# Altium footprint library 1_to_5_Pin.PcbLib: 174 footprints (part 6 of 11)
Each footprint in its own frame and in the unit in brackets; x right, y up, seen from the top. Pads: shape width x height; smd on the part's side, far side on the other; paste and mask are expansions set on the pad; w line width, h text height; cw(c..) or ccw(c..) is an arc to the next point about the centre after c.
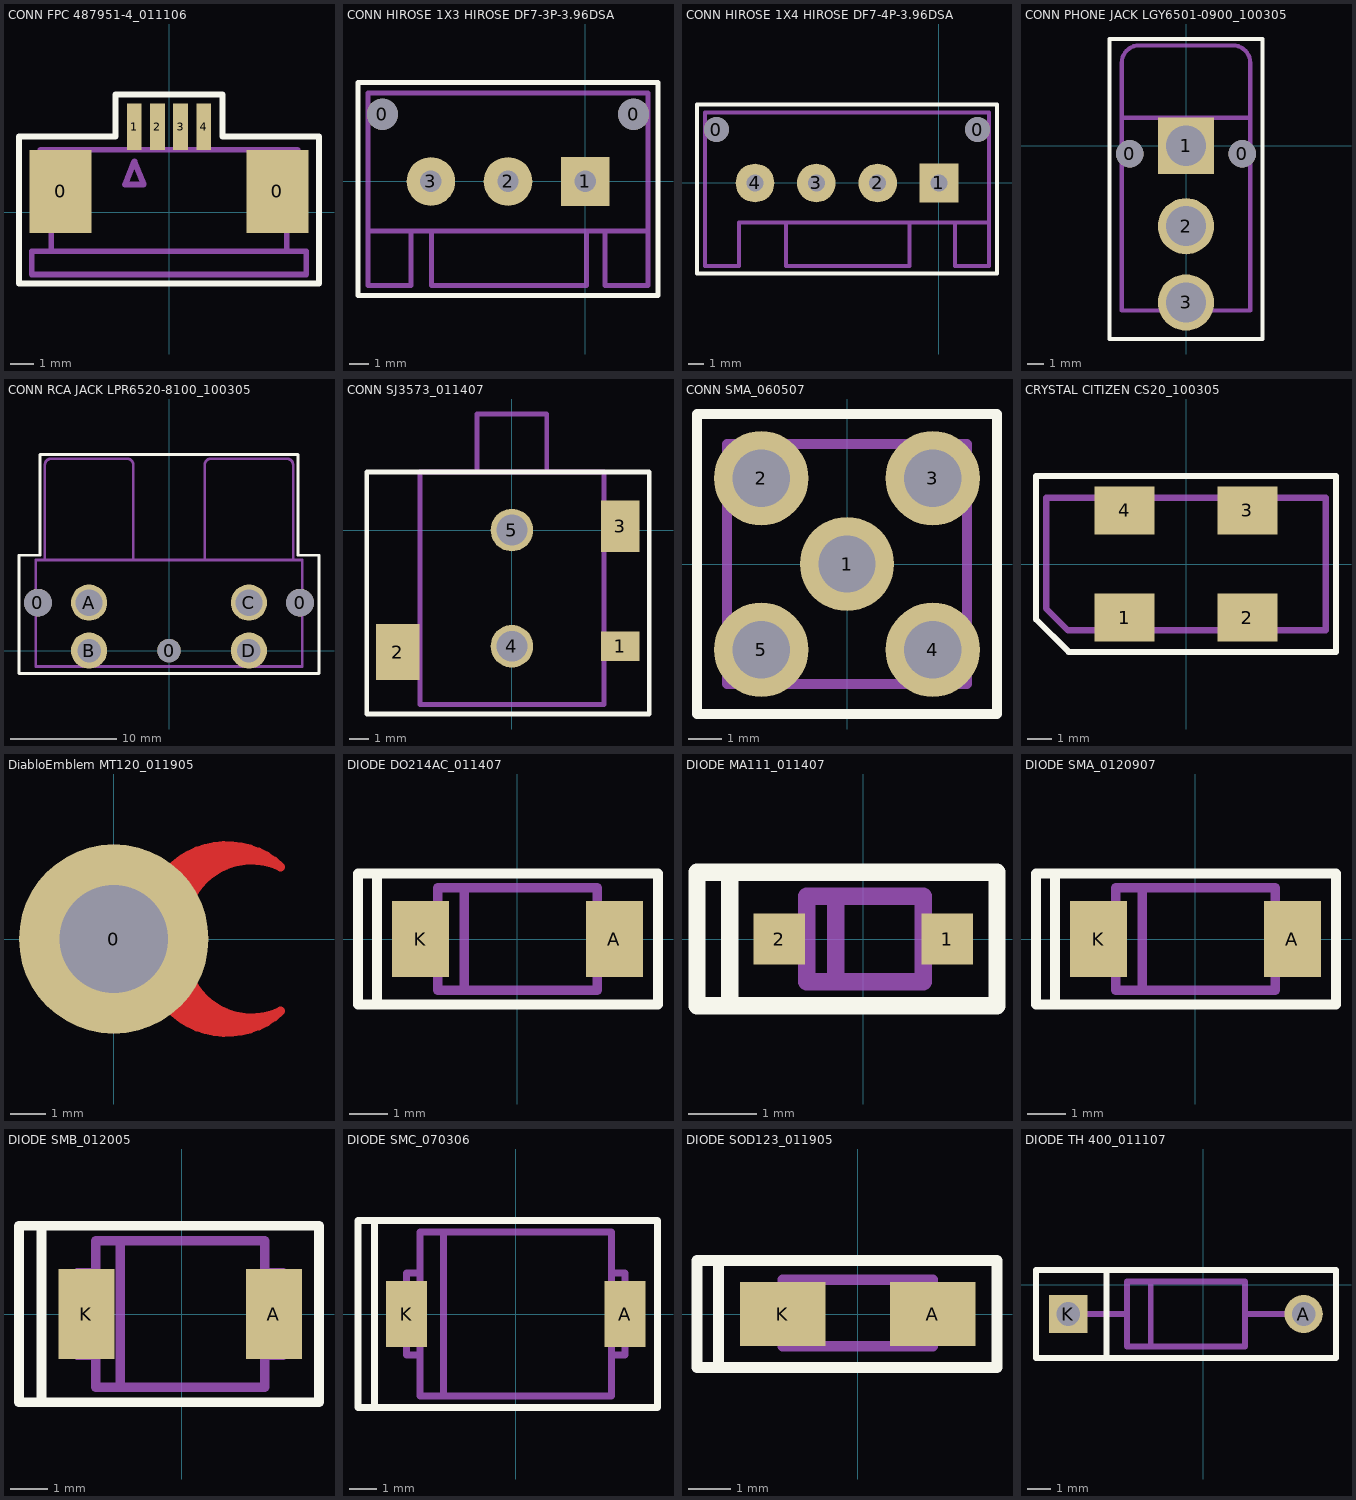
[diagram p5: the footprints below, top view; thin cyan lines are the x and y axes]

## CONN FPC 487951-4_011106 [mm] "SMT"
height 2.54
pads (6):
  rect 2.68x3.6 smd: 0(-4.7,0.9) 0(4.7,0.9)
  rect 0.635x2 smd: 1(-1.5,3.7) 2(-0.5,3.7) 3(0.5,3.7) 4(1.5,3.7)
Top Overlay:
  lines w0.254: -6.5,-3.1 0,-3.1 6.5,-3.1 6.5,0 6.5,2.35 6.5,3.275 2.325,3.275 2.325,5.1 -2.325,5.1 -2.325,3.275 -6.5,3.275 -6.5,2.35 -6.5,0 -6.5,-3.1
Assembly Outline:
  lines w0.254: -5.1,2.7 -5.1,0.05 ; -1.5,2.7 -1.5,3.85 ; -0.5,2.7 -0.5,3.85 ; 0.5,2.7 0.5,3.85 ; 1.5,2.7 1.5,3.85 ; 5.1,2.7 5.1,0.05 ; -5.95,-1.7 -5.1,-1.7 -5.1,0.05 ; -5.95,-1.7 5.95,-1.7 ; -5.95,-1.7 -5.95,-2.7 5.95,-2.7 5.95,-1.7 ; -5.1,0.05 -5.575,0.05 -5.575,2.7 0,2.7 5.575,2.7 5.575,0.05 5.1,0.05 ; 5.1,0.05 5.1,-1.7 5.95,-1.7 ; -1.9,1.2 -1.5,2.2 -1.1,1.2 -1.9,1.2
Assembly Designator:
  text ".Designator" at -1.4,0 h1.02
Assembly Comment:
  text ".Comment" at -4.275,-4.475 h1.02

## CONN HIROSE 1X3 HIROSE DF7-3P-3.96DSA [mm] "TH"
height 12.9
pads (5):
  round 1.6 hole 1.6: 0(-10.415,3.45) 0(2.495,3.45)
  rect 2.5x2.5 hole 1.1: 1(0,0)
  round 2.5 hole 1.1: 2(-3.96,0) 3(-7.92,0)
Top Overlay:
  lines w0.254: -11.665,-5.85 3.745,-5.85 3.745,4.175 3.745,5.075 -11.665,5.075 -11.665,4.175 -11.665,-5.85
Assembly Outline:
  lines w0.254: -8.945,-2.55 -8.945,-5.35 -11.145,-5.35 -11.145,-2.55 ; -7.9,-2.55 -7.9,-5.35 ; -5.895,-5.35 -7.9,-5.35 ; 0.07,-2.55 0.07,-5.35 -7.9,-5.35 ; 1.025,-2.55 1.025,-5.35 3.225,-5.35 3.225,-2.55 ; -11.145,-2.55 3.225,-2.55 ; -11.145,-2.55 -11.145,4.55 3.225,4.55 3.225,-2.55

## CONN HIROSE 1X4 HIROSE DF7-4P-3.96DSA [mm] "TH"
height 12.9
pads (6):
  round 1.6 hole 1.6: 0(-14.375,3.45) 0(2.495,3.45)
  rect 2.5x2.5 hole 1.1: 1(0,0)
  round 2.5 hole 1.1: 2(-3.96,0) 3(-7.92,0) 4(-11.88,0)
Top Overlay:
  lines w0.254: -15.625,-5.85 -15.625,4.175 -15.625,5.075 3.745,5.075 3.745,4.175 3.745,-5.85 -15.625,-5.85
Assembly Outline:
  lines w0.254: -9.88,-2.55 -9.88,-5.35 ; -7.875,-5.35 -9.88,-5.35 ; -1.91,-2.55 -1.91,-5.35 -9.88,-5.35 ; 1.025,-2.55 1.025,-5.35 3.225,-5.35 3.225,-2.55 ; 3.225,-2.55 3.225,4.55 -15.105,4.55 -15.105,-2.55 -15.105,-5.35 -12.905,-5.35 -12.905,-2.55 3.225,-2.55

## CONN PHONE JACK LGY6501-0900_100305 [mm] "TH"
height 9
pads (5):
  round 1.7 hole 1.7: 0(-3.5,-0.5) 0(3.5,-0.5)
  rect 3.5x3.5 hole 2.5: 1(0,0)
  round 3.5 hole 2.5: 2(0,-5) 3(0,-9.75)
Top Overlay:
  lines w0.254: -4.775,-12.025 -4.775,6.65 0,6.65 4.775,6.65 4.775,-12.025 4.425,-12.025 0,-12.025 -4.425,-12.025 -4.775,-12.025
Assembly Outline:
  lines w0.254: 4,1.75 -4,1.75 ; -4,1.75 -4,-10.25 4,-10.25 4,5.175 ccw(c2.925,5.175) 2.925,6.25 -2.925,6.25 ccw(c-2.925,5.175) -4,5.175 -4,1.75
Assembly Designator:
  text ".Designator" at -1.425,-3.025 h1.02
Assembly Comment:
  text ".Comment" at -4.325,-15.175 h1.02

## CONN RCA JACK LPR6520-8100_100305 [mm] "TH"
height 12.1
pads (7):
  round 2.6 hole 2.6: 0(-12.3,4.5) 0(12.3,4.5)
  round 2.2 hole 2.2: 0(0,0)
  round 3.4 hole 2.5: A(-7.5,4.5) C(7.5,4.5)
  round 3.4 hole 2.2: B(-7.5,0) D(7.5,0)
Top Overlay:
  lines w0.254: -14.075,-2.15 -14.075,8.95 -12.1,8.95 -12.1,18.4 0,18.4 12.1,18.4 12.1,8.95 14.075,8.95 14.075,-2.15 0,-2.15 -14.075,-2.15
Assembly Outline:
  lines w0.254: 12.3,3.85 12.3,5.175 ; -12.5,-1.5 -12.5,8.5 0,8.5 12.5,8.5 12.5,-1.5 -11.65,-1.5 -12.5,-1.5 ; -11.65,8.5 -7.5,8.5 -3.35,8.5 -3.35,17.425 ccw(c-3.925,17.425) -3.925,18 -11.075,18 ccw(c-11.075,17.425) -11.65,17.425 -11.65,8.5 ; 3.35,8.5 7.5,8.5 11.65,8.5 11.65,17.425 ccw(c11.075,17.425) 11.075,18 3.925,18 ccw(c3.925,17.425) 3.35,17.425 3.35,8.5
Assembly Designator:
  text ".Designator" at -0.85,4.95 h1.02
Assembly Comment:
  text ".Comment" at -3.5,-3.425 h1.02

## CONN SJ3573_011407 [mm] "TH"
pads (5):
  rect 2x1.5 smd: 1(5.6,-6)
  rect 2.25x2.9 smd: 2(-5.9,-6.3)
  rect 2x2.667 smd: 3(5.6,0.2)
  round 2.2 hole 1.6: 4(0,-6) 5(0,0)
Top Overlay:
  lines w0.254: -7.5,-9.5 -7.1,-9.5 0,-9.5 7.1,-9.5 7.1,-4.55 7.1,3 -7.5,3 -7.5,-9.5
Assembly Outline:
  lines w0.254: -4.75,-7.05 -6.25,-7.05 -6.25,-6.3 -6.25,-5.55 -4.75,-5.55 ; -1.8,3 -1.8,6 0,6 1.8,6 1.8,3 ; 4.75,-6.5 6.25,-6.5 6.25,-6 6.25,-5.5 4.75,-5.5 ; 4.75,-0.55 6.25,-0.55 6.25,0.2 6.25,0.95 4.75,0.95 ; -4.75,-9 4.75,-9 4.75,3 0,3 -4.75,3 -4.75,-7.55 -4.75,-9
Assembly Designator:
  text ".Designator" at 10.08,-2 h1.02
Assembly Comment:
  text ".Comment" at 8.175,-6.699 h1.02

## CONN SMA_060507 [mil] "TH"
pads (5):
  round 110 hole 67: 1(0,0) 2(-100,100) 3(100,100) 4(100,-100) 5(-100,-100)
Top Overlay:
  lines w12: -175,-175 -175,175 175,175 175,0 175,-175 -175,-175
Assembly Outline:
  lines w12: -140,-140 -140,140 140,140 140,0 140,-140 -140,-140
Assembly Designator:
  text ".Designator" at -39.37,-110.24 h40
Assembly Comment:
  text ".Comment" at -169.29,-240.16 h40

## CRYSTAL CITIZEN CS20_100305 [mm] "SMT"
height 2
pads (4):
  rect 2.5x2 smd: 1(-2.55,-2.225) 2(2.55,-2.225) 3(2.55,2.225) 4(-2.55,2.225)
Top Overlay:
  lines w0.254: -6.225,0 -6.225,3.65 ; 0,-3.65 6.225,-3.65 ; -6.225,3.65 0,3.65 6.225,3.65 6.225,0 6.225,-3.65 ; -6.225,3.65 -6.225,-2.3 -4.875,-3.65 6.225,-3.65
Assembly Outline:
  lines w0.254: 0,2.75 -5.8,2.75 ; -5.8,2.75 5.8,2.75 5.8,-2.75 -4.9,-2.75 -5.8,-1.85 -5.8,2.75
Assembly Designator:
  text ".Designator" at -1.275,-0.45 h1.02
Assembly Comment:
  text ".Comment" at -2.325,-5.375 h1.02

## DiabloEmblem MT120_011905 [mil] "FEATURE SMT PCB"
pads (1):
  round 210 hole 120: 0(0,0)
Top Layer:
  lines w10: 60,-75 ccw(c125,-15) 185,-80 cw(c152.5,-12.5) 85,-45 ccw(c112.5,-47.5) 110,-75 ; 60,75 cw(c125,15) 185,80 ccw(c152.5,12.5) 85,45 cw(c142.5,32.5) 155,90 ccw(c122.5,37.5) 70,70 ; 65,-65 ccw(c112.5,-42.5) 135,-90 ; 65,-50 ccw(c105,-45) 110,-85 ; 70,60 cw(c112.5,42.5) 130,85 ; 75,-60 ccw(c132.5,-32.5) 160,-90 ; 75,-45 ccw(c132.5,-27.5) 139.66,-87.18 ; 90,80 ccw(c97.5,62.5) 80,55 cw(c130,40) 145,90

## DIODE DO214AC_011407 [mm] "SMT"
height 2.286
pads (2):
  rect 1.5x2 smd: A(2.55,0) K(-2.55,0)
Top Overlay:
  lines w0.254: -3.7,-1.725 1.375,-1.725 3.7,-1.725 3.7,0 3.7,1.725 1.375,1.725 0,1.725 -3.7,1.725 ; -3.7,-1.725 -3.7,0 -3.7,1.725 ; -3.7,-1.725 -4.2,-1.725 -4.2,0.95 -4.2,1.725 -3.7,1.725
Assembly Outline:
  lines w0.254: -2.1,-0.65 -2.55,-0.65 -2.55,0 -2.55,0.65 -2.1,0.65 ; -1.4,-1.35 -1.4,1.35 -2.1,1.35 ; 0,1.35 2.1,1.35 ; 2.1,-0.65 2.55,-0.65 2.55,0 2.55,0.65 2.1,0.65 ; -2.1,1.35 2.1,1.35 ; -2.1,1.35 -2.1,-1.35 1.425,-1.35 2.1,-1.35 2.1,1.35
Assembly Designator:
  text ".Designator" at -0.725,-0.325 h1.02
Assembly Comment:
  text ".Comment" at -3.2,-2.975 h1.02

## DIODE MA111_011407 [mm] "SMT"
height 0.7
pads (2):
  rect 0.75x0.75 smd: 1(1.225,0) 2(-1.225,0)
Top Overlay:
  lines w0.254: -1.95,-0.975 -2.425,-0.975 -2.425,0.475 -2.425,0.975 -1.95,0.975 ; -1.95,-0.975 -1.95,0 -1.95,0.975 ; -1.95,-0.975 -0.75,-0.975 0,-0.975 0.75,-0.975 1.95,-0.975 1.95,0 1.95,0.975 0.75,0.975 0,0.975 -0.75,0.975 -1.95,0.975
Assembly Outline:
  lines w0.254: -0.825,-0.175 -1.225,-0.175 -1.225,0.175 -0.825,0.175 ; -0.4,0.625 -0.4,-0.625 -0.125,-0.625 ; 0.875,-0.175 1.275,-0.175 1.275,0.175 0.875,0.175 ; 0.875,0 0.875,0.625 ; 0.875,0.625 0.875,-0.625 0.625,-0.625 -0.825,-0.625 -0.825,0.625 0.875,0.625
Assembly Designator:
  text ".Designator" at -1.05,-0.55 h1.02
Assembly Comment:
  text ".Comment" at -2.75,-2.225 h1.02

## DIODE SMA_0120907 [mm] "SMT"
height 2.286
pads (2):
  rect 1.5x2 smd: A(2.55,0) K(-2.55,0)
Top Overlay:
  lines w0.254: -3.7,-1.725 1.375,-1.725 3.7,-1.725 3.7,0 3.7,1.725 1.375,1.725 0,1.725 -3.7,1.725 ; -3.7,-1.725 -3.7,0 -3.7,1.725 ; -3.7,-1.725 -4.2,-1.725 -4.2,0.95 -4.2,1.725 -3.7,1.725
Assembly Outline:
  lines w0.254: -2.1,-0.65 -2.55,-0.65 -2.55,0 -2.55,0.65 -2.1,0.65 ; -1.4,-1.35 -1.4,1.35 -2.1,1.35 ; 0,1.35 2.1,1.35 ; 2.1,-0.65 2.55,-0.65 2.55,0 2.55,0.65 2.1,0.65 ; -2.1,1.35 2.1,1.35 ; -2.1,1.35 -2.1,-1.35 1.425,-1.35 2.1,-1.35 2.1,1.35
Assembly Designator:
  text ".Designator" at -0.725,-0.325 h1.02
Assembly Comment:
  text ".Comment" at -3.2,-2.975 h1.02

## DIODE SMB_012005 [mm] "SMT"
height 2.286
pads (2):
  rect 1.5x2.4 smd: A(2.46,0) K(-2.54,0)
Top Overlay:
  lines w0.254: -3.74,-2.35 -3.74,0 -3.74,2.35 ; -3.74,-2.35 3.66,-2.35 3.66,0 3.66,2.35 -3.74,2.35 ; -3.74,-2.35 -4.34,-2.35 -4.34,2.35 -3.74,2.35
Assembly Outline:
  lines w0.254: -2.29,-1.1 -2.79,-1.1 -2.79,0 -2.79,1.1 -2.29,1.1 ; -1.64,-1.95 -1.64,1.95 -2.29,1.95 ; 2.21,-1.1 2.71,-1.1 2.71,0 2.71,1.1 2.21,1.1 ; -2.29,1.95 -2.29,0 -2.29,-1.95 2.21,-1.95 2.21,1.95 -2.29,1.95
Assembly Designator:
  text ".Designator" at -1.143,-0.381 h1.02
Assembly Comment:
  text ".Comment" at -2.667,2.286 h1.02

## DIODE SMC_070306 [mm] "SMT"
height 2.5
pads (2):
  rect 1.5x2.4 smd: A(4,0) K(-4,0)
Top Overlay:
  lines w0.254: -5.175,-3.425 -5.775,-3.425 -5.775,3.425 -5.175,3.425 ; -5.175,-3.425 0,-3.425 5.175,-3.425 5.175,0 5.175,3.425 0,3.425 -5.175,3.425 ; -5.175,-3.425 -5.175,0 -5.175,3.425
Assembly Outline:
  lines w0.254: -3.5,-1.5 -4,-1.5 -4,0 -4,1.5 -3.5,1.5 ; -2.65,-3 -2.65,3 -3.5,3 ; 0,3 -3.5,3 ; 3.5,-1.5 4,-1.5 4,0 4,1.5 3.5,1.5 ; -3.5,3 -3.5,-3 3.5,-3 3.5,3 -3.5,3
Assembly Designator:
  text ".Designator" at -1.2,-0.425 h1.02
Assembly Comment:
  text ".Comment" at -4.375,-4.35 h1.02

## DIODE SOD123_011905 [mil] "SMT"
height 60
pads (2):
  rect 80x60 smd: A(70,0) K(-70,0)
Top Overlay:
  lines w10: -130,-50 -130,50 ; -150,-50 40,-50 130,-50 130,50 40,50 -150,50 -150,-50
Assembly Outline:
  lines w10: -40,-30 -40,32 ; -70,-30 70,-30 70,32 -70,32 -70,-30
Assembly Designator:
  text ".Designator" at -30,-20 h40
Assembly Comment:
  text ".Comment" at -90,45 h40

## DIODE TH 400_011107 [mil] "TH"
height 85
pads (2):
  round 65 hole 40: A(170.31,-49.69)
  rect 65x65 hole 40: K(-229.69,-49.69)
Top Overlay:
  lines w10: -164.69,-124.69 -164.69,25.32 ; -284.69,-124.69 -29.68,-124.69 225.31,-124.69 225.31,-49.69 225.31,25.32 -29.68,25.32 -284.69,25.32 -284.69,-49.69 -284.69,-124.69
Assembly Outline:
  lines w10: -229.69,-49.69 -129.69,-49.69 ; -89.69,-104.69 -89.69,5.32 ; 170.31,-49.69 70.31,-49.69 ; -129.69,-49.69 -129.69,5.32 -29.68,5.32 70.31,5.32 70.31,-49.69 ; -129.69,-49.69 -129.69,-104.69 -29.68,-104.69 70.31,-104.69 70.31,-49.69
Assembly Designator:
  text ".Designator" at -68.9,-68.9 h40
Assembly Comment:
  text ".Comment" at -236.22,-177.17 h40